# Altium footprint library SMD_3pins.PcbLib: 7 footprints
Each footprint in its own frame and in the unit in brackets; x right, y up, seen from the top. Pads: shape width x height; smd on the part's side, far side on the other; paste and mask are expansions set on the pad; w line width, h text height; cw(c..) or ccw(c..) is an arc to the next point about the centre after c.
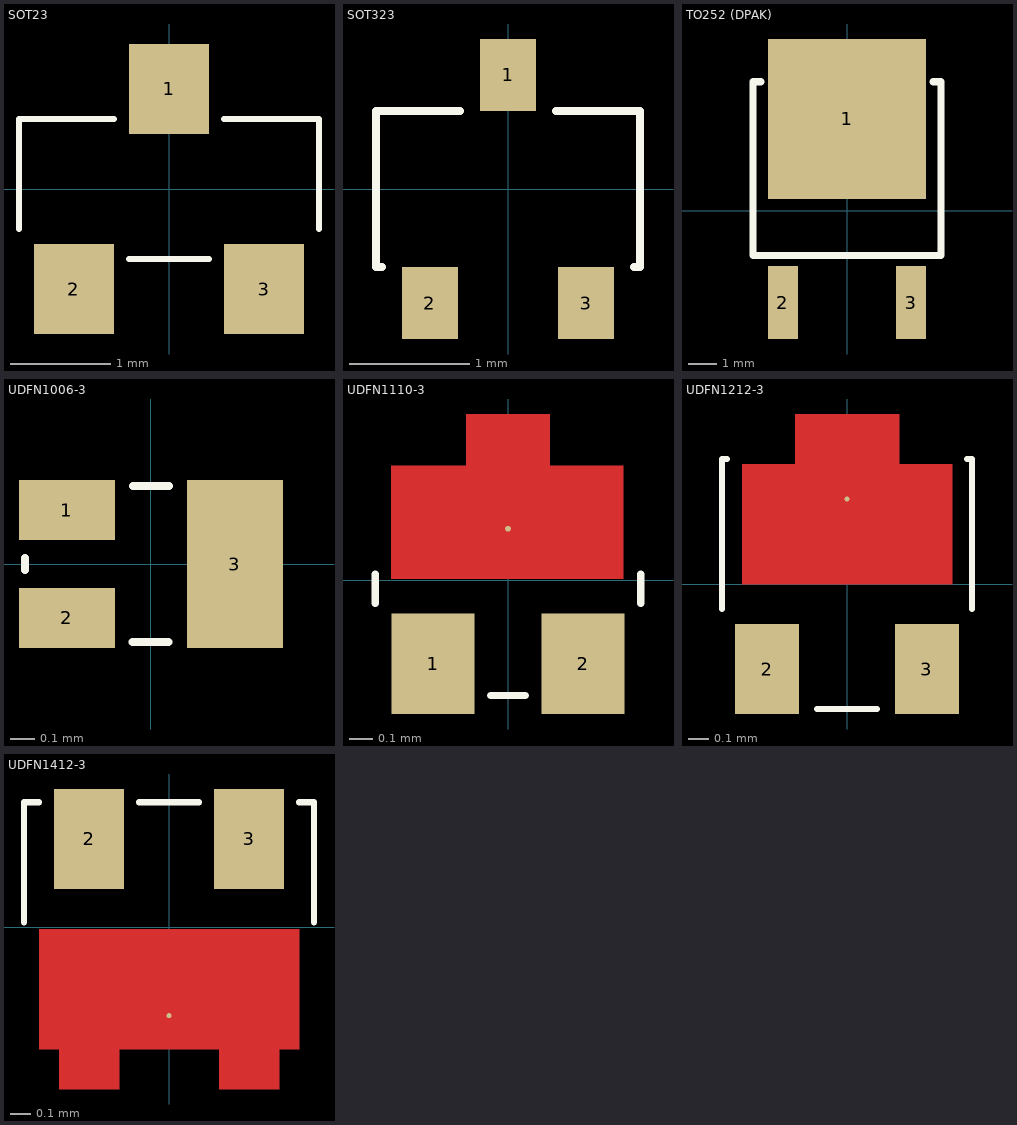
[diagram p0: the footprints below, top view; thin cyan lines are the x and y axes]

## SOT23 [mm]
pads (3):
  rect 0.8x0.9 smd mask+0.102: 1(0,1) 2(-0.95,-1) 3(0.95,-1)
Top Overlay:
  lines w0.064: -1.5,-0.4 -1.5,0.7 -0.55,0.7 ; -0.4,-0.7 0.4,-0.7 ; 0.55,0.7 1.5,0.7 1.5,-0.4
3D body "SOT23.stp": height 0.99, standoff -0.04, extent -1.45,-1.208 1.45,1.207

## SOT323 [mm]
pads (3):
  rect 0.47x0.6 smd mask+0.102: 1(0,0.95) 2(-0.65,-0.95) 3(0.65,-0.95)
Top Overlay:
  lines w0.064: -1.05,-0.65 -1.1,-0.65 -1.1,0.65 -0.4,0.65 ; 0.4,0.65 1.1,0.65 1.1,-0.65 1.05,-0.65
3D body "SOT323.stp": height 0.96, standoff -0.04, extent -1.075,-1.047 1.075,1.067

## TO252 (DPAK) [mm]
pads (3):
  rect 5.632x5.7 smd mask+0.102: 1(0,3.275)
  rect 1.06x2.6 smd mask+0.102: 2(-2.286,-3.275) 3(2.286,-3.275)
Top Overlay:
  lines w0.256: -3.075,4.6 -3.35,4.6 -3.35,-1.6 3.35,-1.6 3.35,4.6 3.075,4.6
3D body "TO252-DPAK.STP": height 2.29, standoff -0.09, extent -3.29,-4.371 3.291,5.55

## UDFN1006-3 [mm]
pads (3):
  rect 0.4x0.25 smd mask+0.052: 1(-0.35,0.225) 2(-0.35,-0.225)
  rect 0.4x0.7 smd mask+0.052: 3(0.35,0)
Top Overlay:
  lines w0.032: -0.525,-0.025 -0.525,0.025 ; -0.077,-0.325 0.073,-0.325 ; -0.075,0.325 0.075,0.325
3D body "SWP-DFN1006-3.stp": height 0.49, standoff 0.01, extent -0.5,-0.3 0.5,0.3

## UDFN1110-3 [mm]
pads (3):
  rect 0.36x0.435 smd mask+0.052: 1(-0.325,-0.362) 2(0.325,-0.362)
  round 0.025 smd mask+0.052: 3(0,0.223)
Top Layer:
  region: -0.505,0.495 -0.505,0.005 0.5,0.005 0.5,0.495 0.18,0.495 0.18,0.72 -0.18,0.72 -0.18,0.495
Top Overlay:
  lines w0.032: -0.575,-0.1 -0.575,0.025 ; -0.075,-0.5 0.075,-0.5 ; 0.575,-0.1 0.575,0.025
3D body "SWP-DFN1110A-3.stp": height 0.51, standoff 0, extent -0.55,-0.44 0.55,0.58

## UDFN1212-3 [mm]
pads (3):
  round 0.025 smd mask+0.052: 1(0,0.425)
  rect 0.32x0.45 smd mask+0.052: 2(-0.4,-0.425) 3(0.4,-0.425)
Top Layer:
  region: -0.525,0 -0.525,0.6 -0.26,0.6 -0.26,0.85 0.26,0.85 0.26,0.6 0.525,0.6 0.525,0
Top Overlay:
  lines w0.032: -0.625,-0.125 -0.625,0.625 -0.6,0.625 ; -0.15,-0.625 0.15,-0.625 ; 0.6,0.625 0.625,0.625 0.625,-0.125
3D body "SWP-DFN1212-3.STEP": height 0.5, standoff 0, extent -0.6,-0.6 0.6,0.6

## UDFN1412-3 [mm]
pads (3):
  round 0.025 smd mask+0.052: 1(0,-0.442)
  rect 0.35x0.5 smd mask+0.052: 2(-0.4,0.442) 3(0.4,0.442)
Top Layer:
  region: -0.55,-0.808 -0.55,-0.608 -0.65,-0.608 -0.65,-0.008 0.65,-0.008 0.65,-0.608 0.55,-0.608 0.55,-0.808 0.25,-0.808 0.25,-0.608 -0.25,-0.608 -0.25,-0.808
Top Overlay:
  lines w0.032: -0.725,0.025 -0.725,0.625 -0.65,0.625 ; -0.15,0.625 0.15,0.625 ; 0.65,0.625 0.725,0.625 0.725,0.025
3D body "SWP-DFN1412A-4.stp": height 0.51, standoff -0.01, extent -0.7,-0.615 0.7,0.615